# Altium integrated library Renesas Microcontroller H8S.IntLib: 670 symbols (part 8 of 70)
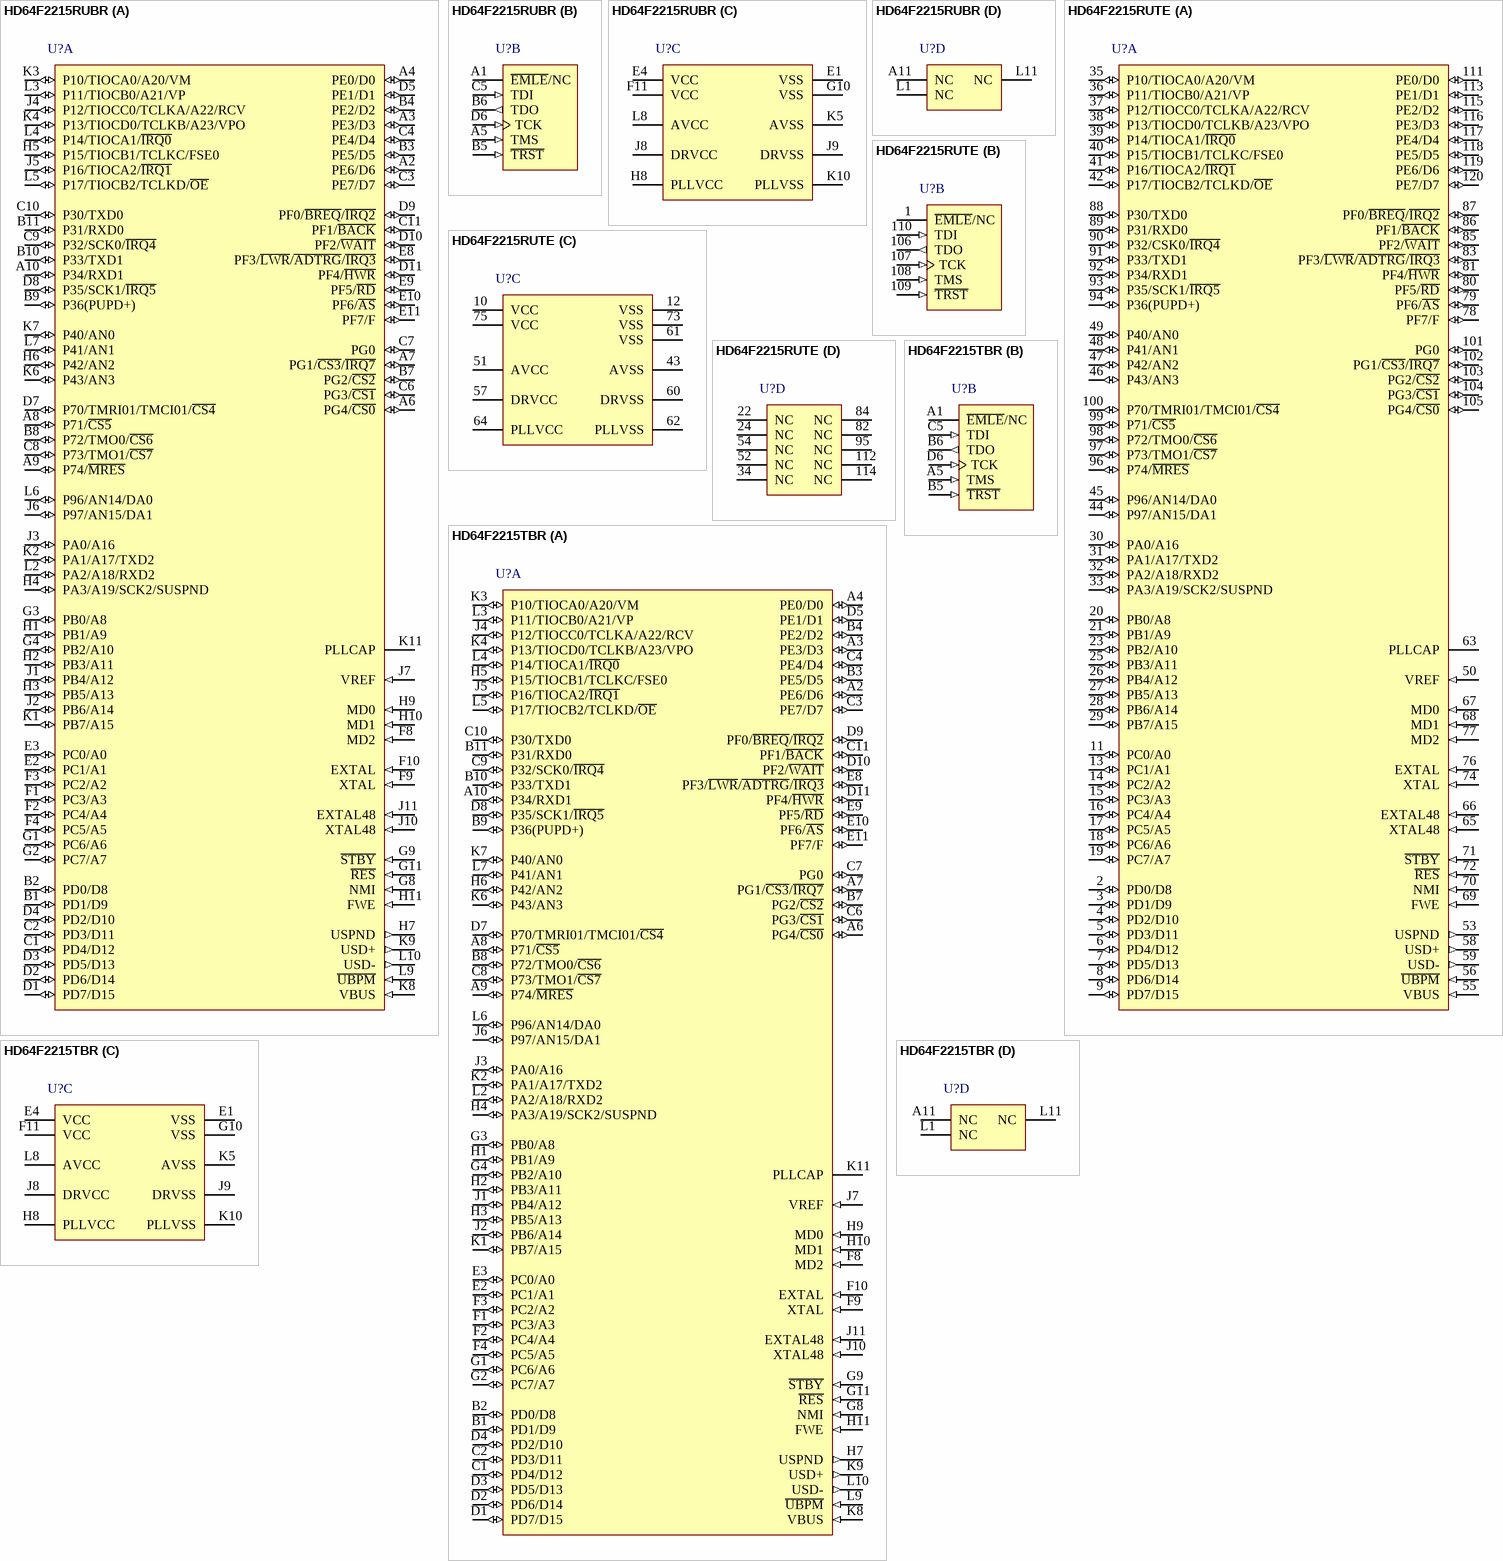
[diagram p348: symbols HD64F2215RUBR to HD64F2215TBR]

## HD64F2215TBR
designator U?
Flash memory H8S/2200 Series, 2215 Group MCU, 256K ROM, 20K RAM, BP-112 Pkg; Published: 28-Aug-2009; DatasheetVersion: Rev.8.00, Jan-2009; PackageVersion: Sep-2005; PackageReference: PLBG0112GA-A; Publisher: Altium Limited; PackageDescription: 112-Ball Plastic Low Profile Thin-Fine Pitch BGA, 10 x 10 mm Body, 0.8 mm Pitch; Code_JEITA: P-LFBGA112-10x10-0.80; ComponentLink1Description: Manufacturer Link; ComponentLink1URL: http://sg.renesas.com/fmwk.jsp?cnt=h8s_family_landing.jsp&fp=/products/mpumcu/h8s_family/; ComponentLink2Description: Datasheet; ComponentLink2URL: http://documentation.renesas.com/eng/products/mpumcu/rej09b0140_2215hm.pdf; ComponentLink3Description: Packaging Specification; ComponentLink3URL: http://sg.renesas.com/media/products/common_info/package/pdf/ic/code/plbg0112ga_a.pdf
footprint PLBG0112GA-A (BGA, 112-Leads, Body 10x10mm, Pitch 0.8mm)
part A pins: A2 PE6/D6 (io), A3 PE3/D3 (io), A4 PE0/D0 (io), A6 PG4/~{CS0} (io), A7 PG1/~{CS3}/~{IRQ7} (io), A8 P71/~{CS5} (io), A9 P74/~{MRES} (io), A10 P34/RXD1 (io), B1 PD1/D9 (io), B2 PD0/D8 (io), B3 PE5/D5 (io), B4 PE2/D2 (io), B7 PG2/~{CS2} (io), B8 P72/TMO0/~{CS6} (io), B9 P36(PUPD+) (io), B10 P33/TXD1 (io), B11 P31/RXD0 (io), C1 PD4/D12 (io), C2 PD3/D11 (io), C3 PE7/D7 (io), C4 PE4/D4 (io), C6 PG3/~{CS1} (io), C7 PG0 (io), C8 P73/TMO1/~{CS7} (io), C9 P32/SCK0/~{IRQ4} (io), C10 P30/TXD0 (io), C11 PF1/~{BACK} (io), D1 PD7/D15 (io), D2 PD6/D14 (io), D3 PD5/D13 (io), D4 PD2/D10 (io), D5 PE1/D1 (io), D7 P70/TMRI01/TMCI01/~{CS4} (io), D8 P35/SCK1/~{IRQ5} (io), D9 PF0/~{BREQ}/~{IRQ2} (io), D10 PF2/~{WAIT} (io), D11 PF4/~{HWR} (io), E2 PC1/A1 (io), E3 PC0/A0 (io), E8 PF3/~{LWR}/~{ADTRG}/~{IRQ3} (io), E9 PF5/~{RD} (io), E10 PF6/~{AS} (io), E11 PF7/F (io), F1 PC3/A3 (io), F2 PC4/A4 (io), F3 PC2/A2 (io), F4 PC5/A5 (io), F8 MD2 (in), F9 XTAL (in), F10 EXTAL (in), G1 PC6/A6 (io), G2 PC7/A7 (io), G3 PB0/A8 (io), G4 PB2/A10 (io), G8 NMI (in), G9 ~{STBY} (in), G11 ~{RES} (in), H1 PB1/A9 (io), H2 PB3/A11 (io), H3 PB5/A13 (io), H4 PA3/A19/SCK2/SUSPND (io), H5 P15/TIOCB1/TCLKC/FSE0 (io), H6 P42/AN2 (io), H7 USPND (out), H9 MD0 (in), H10 MD1 (in), H11 FWE (in), J1 PB4/A12 (io), J2 PB6/A14 (io), J3 PA0/A16 (io), J4 P12/TIOCC0/TCLKA/A22/RCV (io), J5 P16/TIOCA2/~{IRQ1} (io), J6 P97/AN15/DA1 (io), J7 VREF (in), J10 XTAL48 (in), J11 EXTAL48 (in), K1 PB7/A15 (io), K2 PA1/A17/TXD2 (io), K3 P10/TIOCA0/A20/VM (io), K4 P13/TIOCD0/TCLKB/A23/VPO (io), K6 P43/AN3 (io), K7 P40/AN0 (io), K8 VBUS (in), K9 USD+ (out), K11 PLLCAP, L2 PA2/A18/RXD2 (io), L3 P11/TIOCB0/A21/VP (io), L4 P14/TIOCA1/~{IRQ0} (io), L5 P17/TIOCB2/TCLKD/~{OE} (io), L6 P96/AN14/DA0 (io), L7 P41/AN1 (io), L9 ~{UBPM} (in), L10 USD- (out)
part B pins: A1 ~{EMLE}/NC, A5 TMS (in), B5 ~{TRST} (in), B6 TDO (out), C5 TDI (in), D6 TCK (in)
part C pins: E1 VSS (power), E4 VCC (power), F11 VCC (power), G10 VSS (power), H8 PLLVCC (power), J8 DRVCC (power), J9 DRVSS (power), K5 AVSS (power), K10 PLLVSS (power), L8 AVCC (power)
part D pins: A11 NC, L1 NC, L11 NC

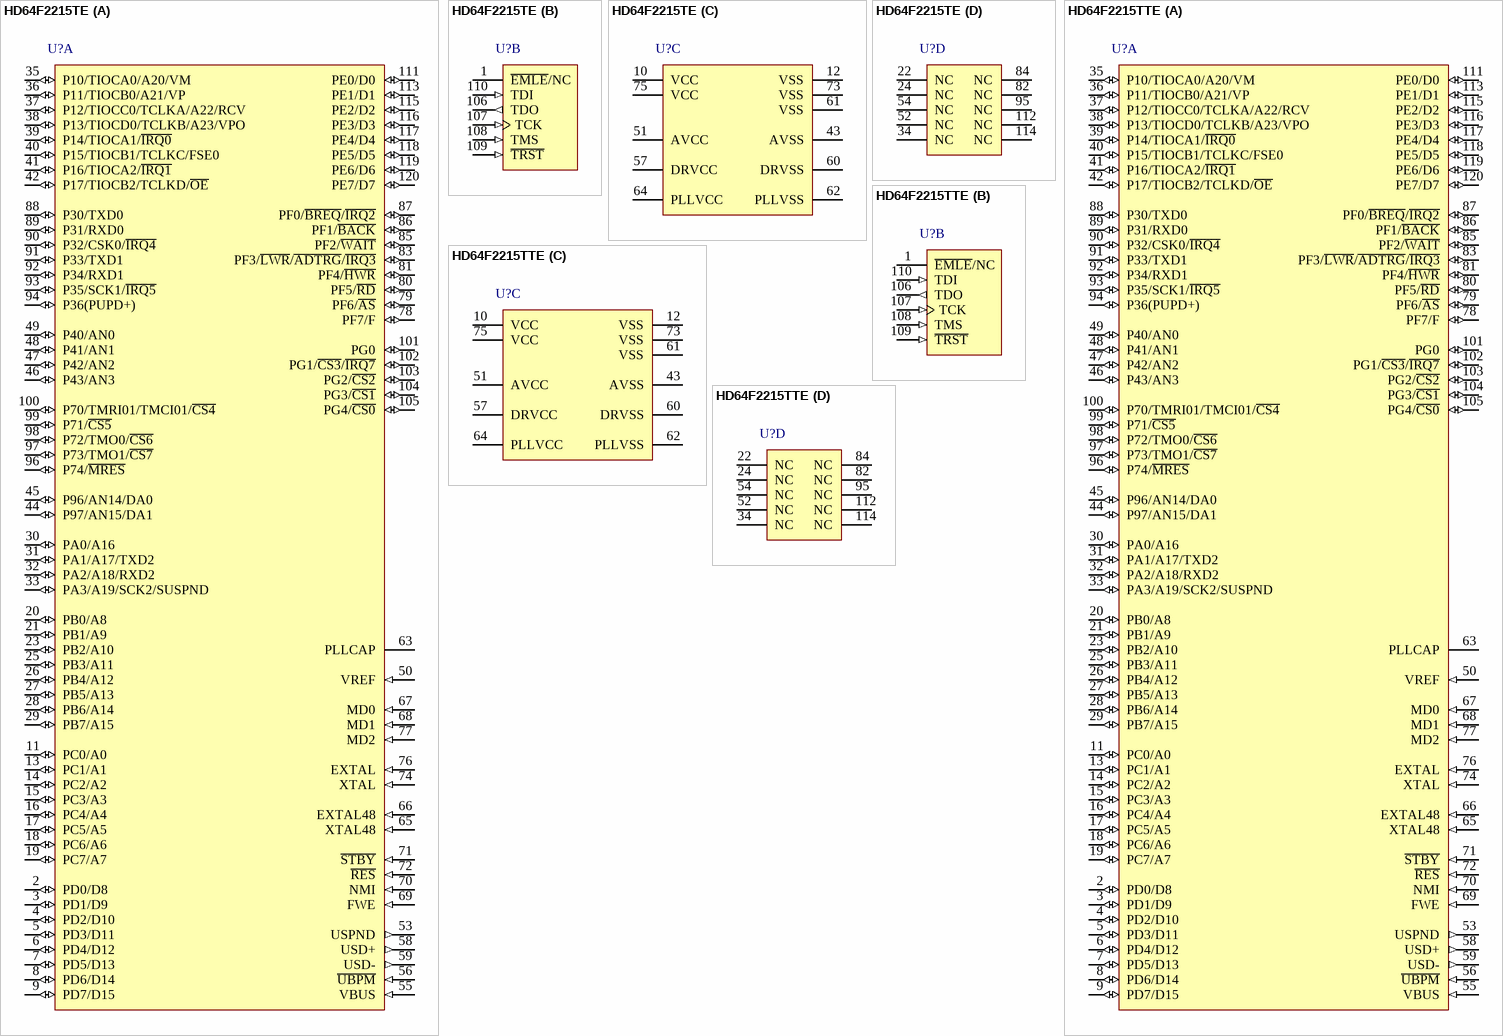
[diagram p28: symbols HD64F2215TE to HD64F2215TTE]

## HD64F2215TE
designator U?
Flash memory H8S/2200 Series, 2215 Group MCU, 256K ROM, 16K RAM, TFP-120 Pkg; Published: 28-Aug-2009; DatasheetVersion: Rev.8.00, Jan-2009; PackageVersion: Sep-2005; PackageReference: PTQP0120LA-A; Publisher: Altium Limited; PackageDescription: 120-Pin Plastic Thin QFP, 14 x 14 x 1.0 mm Body, 0.4 mm Pitch; Code_JEITA: P-TQFP120-14x14-0.40; ComponentLink1Description: Manufacturer Link; ComponentLink1URL: http://sg.renesas.com/fmwk.jsp?cnt=h8s_family_landing.jsp&fp=/products/mpumcu/h8s_family/; ComponentLink2Description: Datasheet; ComponentLink2URL: http://documentation.renesas.com/eng/products/mpumcu/rej09b0140_2215hm.pdf; ComponentLink3Description: Packaging Specification; ComponentLink3URL: http://sg.renesas.com/media/products/common_info/package/pdf/ic/code/ptqp0120la_a.pdf
footprint PTQP0120LA-A_N (Thin QFP, 120-Leads, Body 14x14mm, Pitch 0.4mm, IPC Medium Density)
footprint PTQP0120LA-A_L (Thin QFP, 120-Leads, Body 14x14mm, Pitch 0.4mm, IPC High Density)
footprint PTQP0120LA-A_M (Thin QFP, 120-Leads, Body 14x14mm, Pitch 0.4mm, IPC Low Density)
part A pins: 2 PD0/D8 (io), 3 PD1/D9 (io), 4 PD2/D10 (io), 5 PD3/D11 (io), 6 PD4/D12 (io), 7 PD5/D13 (io), 8 PD6/D14 (io), 9 PD7/D15 (io), 11 PC0/A0 (io), 13 PC1/A1 (io), 14 PC2/A2 (io), 15 PC3/A3 (io), 16 PC4/A4 (io), 17 PC5/A5 (io), 18 PC6/A6 (io), 19 PC7/A7 (io), 20 PB0/A8 (io), 21 PB1/A9 (io), 23 PB2/A10 (io), 25 PB3/A11 (io), 26 PB4/A12 (io), 27 PB5/A13 (io), 28 PB6/A14 (io), 29 PB7/A15 (io), 30 PA0/A16 (io), 31 PA1/A17/TXD2 (io), 32 PA2/A18/RXD2 (io), 33 PA3/A19/SCK2/SUSPND (io), 35 P10/TIOCA0/A20/VM (io), 36 P11/TIOCB0/A21/VP (io), 37 P12/TIOCC0/TCLKA/A22/RCV (io), 38 P13/TIOCD0/TCLKB/A23/VPO (io), 39 P14/TIOCA1/~{IRQ0} (io), 40 P15/TIOCB1/TCLKC/FSE0 (io), 41 P16/TIOCA2/~{IRQ1} (io), 42 P17/TIOCB2/TCLKD/~{OE} (io), 44 P97/AN15/DA1 (io), 45 P96/AN14/DA0 (io), 46 P43/AN3 (io), 47 P42/AN2 (io), 48 P41/AN1 (io), 49 P40/AN0 (io), 50 VREF (in), 53 USPND (out), 55 VBUS (in), 56 ~{UBPM} (in), 58 USD+ (out), 59 USD- (out), 63 PLLCAP, 65 XTAL48 (in), 66 EXTAL48 (in), 67 MD0 (in), 68 MD1 (in), 69 FWE (in), 70 NMI (in), 71 ~{STBY} (in), 72 ~{RES} (in), 74 XTAL (in), 76 EXTAL (in), 77 MD2 (in), 78 PF7/F (io), 79 PF6/~{AS} (io), 80 PF5/~{RD} (io), 81 PF4/~{HWR} (io), 83 PF3/~{LWR}/~{ADTRG}/~{IRQ3} (io), 85 PF2/~{WAIT} (io), 86 PF1/~{BACK} (io), 87 PF0/~{BREQ}/~{IRQ2} (io), 88 P30/TXD0 (io), 89 P31/RXD0 (io), 90 P32/CSK0/~{IRQ4} (io), 91 P33/TXD1 (io), 92 P34/RXD1 (io), 93 P35/SCK1/~{IRQ5} (io), 94 P36(PUPD+) (io), 96 P74/~{MRES} (io), 97 P73/TMO1/~{CS7} (io), 98 P72/TMO0/~{CS6} (io), 99 P71/~{CS5} (io), 100 P70/TMRI01/TMCI01/~{CS4} (io), 101 PG0 (io), 102 PG1/~{CS3}/~{IRQ7} (io), 103 PG2/~{CS2} (io), 104 PG3/~{CS1} (io), 105 PG4/~{CS0} (io), 111 PE0/D0 (io), 113 PE1/D1 (io), 115 PE2/D2 (io), 116 PE3/D3 (io), 117 PE4/D4 (io), 118 PE5/D5 (io), 119 PE6/D6 (io), 120 PE7/D7 (io)
part B pins: 1 ~{EMLE}/NC, 106 TDO (out), 107 TCK (in), 108 TMS (in), 109 ~{TRST} (in), 110 TDI (in)
part C pins: 10 VCC (power), 12 VSS (power), 43 AVSS (power), 51 AVCC (power), 57 DRVCC (power), 60 DRVSS (power), 61 VSS (power), 62 PLLVSS (power), 64 PLLVCC (power), 73 VSS (power), 75 VCC (power)
part D pins: 22 NC, 24 NC, 34 NC, 52 NC, 54 NC, 82 NC, 84 NC, 95 NC, 112 NC, 114 NC

## HD64F2215TTE
designator U?
Flash memory H8S/2200 Series, 2215 Group MCU, 256K ROM, 20K RAM, TFP-120 Pkg; Published: 28-Aug-2009; DatasheetVersion: Rev.8.00, Jan-2009; PackageVersion: Sep-2005; PackageReference: PTQP0120LA-A; Publisher: Altium Limited; PackageDescription: 120-Pin Plastic Thin QFP, 14 x 14 x 1.0 mm Body, 0.4 mm Pitch; Code_JEITA: P-TQFP120-14x14-0.40; ComponentLink1Description: Manufacturer Link; ComponentLink1URL: http://sg.renesas.com/fmwk.jsp?cnt=h8s_family_landing.jsp&fp=/products/mpumcu/h8s_family/; ComponentLink2Description: Datasheet; ComponentLink2URL: http://documentation.renesas.com/eng/products/mpumcu/rej09b0140_2215hm.pdf; ComponentLink3Description: Packaging Specification; ComponentLink3URL: http://sg.renesas.com/media/products/common_info/package/pdf/ic/code/ptqp0120la_a.pdf
footprint PTQP0120LA-A_N (Thin QFP, 120-Leads, Body 14x14mm, Pitch 0.4mm, IPC Medium Density)
footprint PTQP0120LA-A_L (Thin QFP, 120-Leads, Body 14x14mm, Pitch 0.4mm, IPC High Density)
footprint PTQP0120LA-A_M (Thin QFP, 120-Leads, Body 14x14mm, Pitch 0.4mm, IPC Low Density)
part A pins: 2 PD0/D8 (io), 3 PD1/D9 (io), 4 PD2/D10 (io), 5 PD3/D11 (io), 6 PD4/D12 (io), 7 PD5/D13 (io), 8 PD6/D14 (io), 9 PD7/D15 (io), 11 PC0/A0 (io), 13 PC1/A1 (io), 14 PC2/A2 (io), 15 PC3/A3 (io), 16 PC4/A4 (io), 17 PC5/A5 (io), 18 PC6/A6 (io), 19 PC7/A7 (io), 20 PB0/A8 (io), 21 PB1/A9 (io), 23 PB2/A10 (io), 25 PB3/A11 (io), 26 PB4/A12 (io), 27 PB5/A13 (io), 28 PB6/A14 (io), 29 PB7/A15 (io), 30 PA0/A16 (io), 31 PA1/A17/TXD2 (io), 32 PA2/A18/RXD2 (io), 33 PA3/A19/SCK2/SUSPND (io), 35 P10/TIOCA0/A20/VM (io), 36 P11/TIOCB0/A21/VP (io), 37 P12/TIOCC0/TCLKA/A22/RCV (io), 38 P13/TIOCD0/TCLKB/A23/VPO (io), 39 P14/TIOCA1/~{IRQ0} (io), 40 P15/TIOCB1/TCLKC/FSE0 (io), 41 P16/TIOCA2/~{IRQ1} (io), 42 P17/TIOCB2/TCLKD/~{OE} (io), 44 P97/AN15/DA1 (io), 45 P96/AN14/DA0 (io), 46 P43/AN3 (io), 47 P42/AN2 (io), 48 P41/AN1 (io), 49 P40/AN0 (io), 50 VREF (in), 53 USPND (out), 55 VBUS (in), 56 ~{UBPM} (in), 58 USD+ (out), 59 USD- (out), 63 PLLCAP, 65 XTAL48 (in), 66 EXTAL48 (in), 67 MD0 (in), 68 MD1 (in), 69 FWE (in), 70 NMI (in), 71 ~{STBY} (in), 72 ~{RES} (in), 74 XTAL (in), 76 EXTAL (in), 77 MD2 (in), 78 PF7/F (io), 79 PF6/~{AS} (io), 80 PF5/~{RD} (io), 81 PF4/~{HWR} (io), 83 PF3/~{LWR}/~{ADTRG}/~{IRQ3} (io), 85 PF2/~{WAIT} (io), 86 PF1/~{BACK} (io), 87 PF0/~{BREQ}/~{IRQ2} (io), 88 P30/TXD0 (io), 89 P31/RXD0 (io), 90 P32/CSK0/~{IRQ4} (io), 91 P33/TXD1 (io), 92 P34/RXD1 (io), 93 P35/SCK1/~{IRQ5} (io), 94 P36(PUPD+) (io), 96 P74/~{MRES} (io), 97 P73/TMO1/~{CS7} (io), 98 P72/TMO0/~{CS6} (io), 99 P71/~{CS5} (io), 100 P70/TMRI01/TMCI01/~{CS4} (io), 101 PG0 (io), 102 PG1/~{CS3}/~{IRQ7} (io), 103 PG2/~{CS2} (io), 104 PG3/~{CS1} (io), 105 PG4/~{CS0} (io), 111 PE0/D0 (io), 113 PE1/D1 (io), 115 PE2/D2 (io), 116 PE3/D3 (io), 117 PE4/D4 (io), 118 PE5/D5 (io), 119 PE6/D6 (io), 120 PE7/D7 (io)
part B pins: 1 ~{EMLE}/NC, 106 TDO (out), 107 TCK (in), 108 TMS (in), 109 ~{TRST} (in), 110 TDI (in)
part C pins: 10 VCC (power), 12 VSS (power), 43 AVSS (power), 51 AVCC (power), 57 DRVCC (power), 60 DRVSS (power), 61 VSS (power), 62 PLLVSS (power), 64 PLLVCC (power), 73 VSS (power), 75 VCC (power)
part D pins: 22 NC, 24 NC, 34 NC, 52 NC, 54 NC, 82 NC, 84 NC, 95 NC, 112 NC, 114 NC

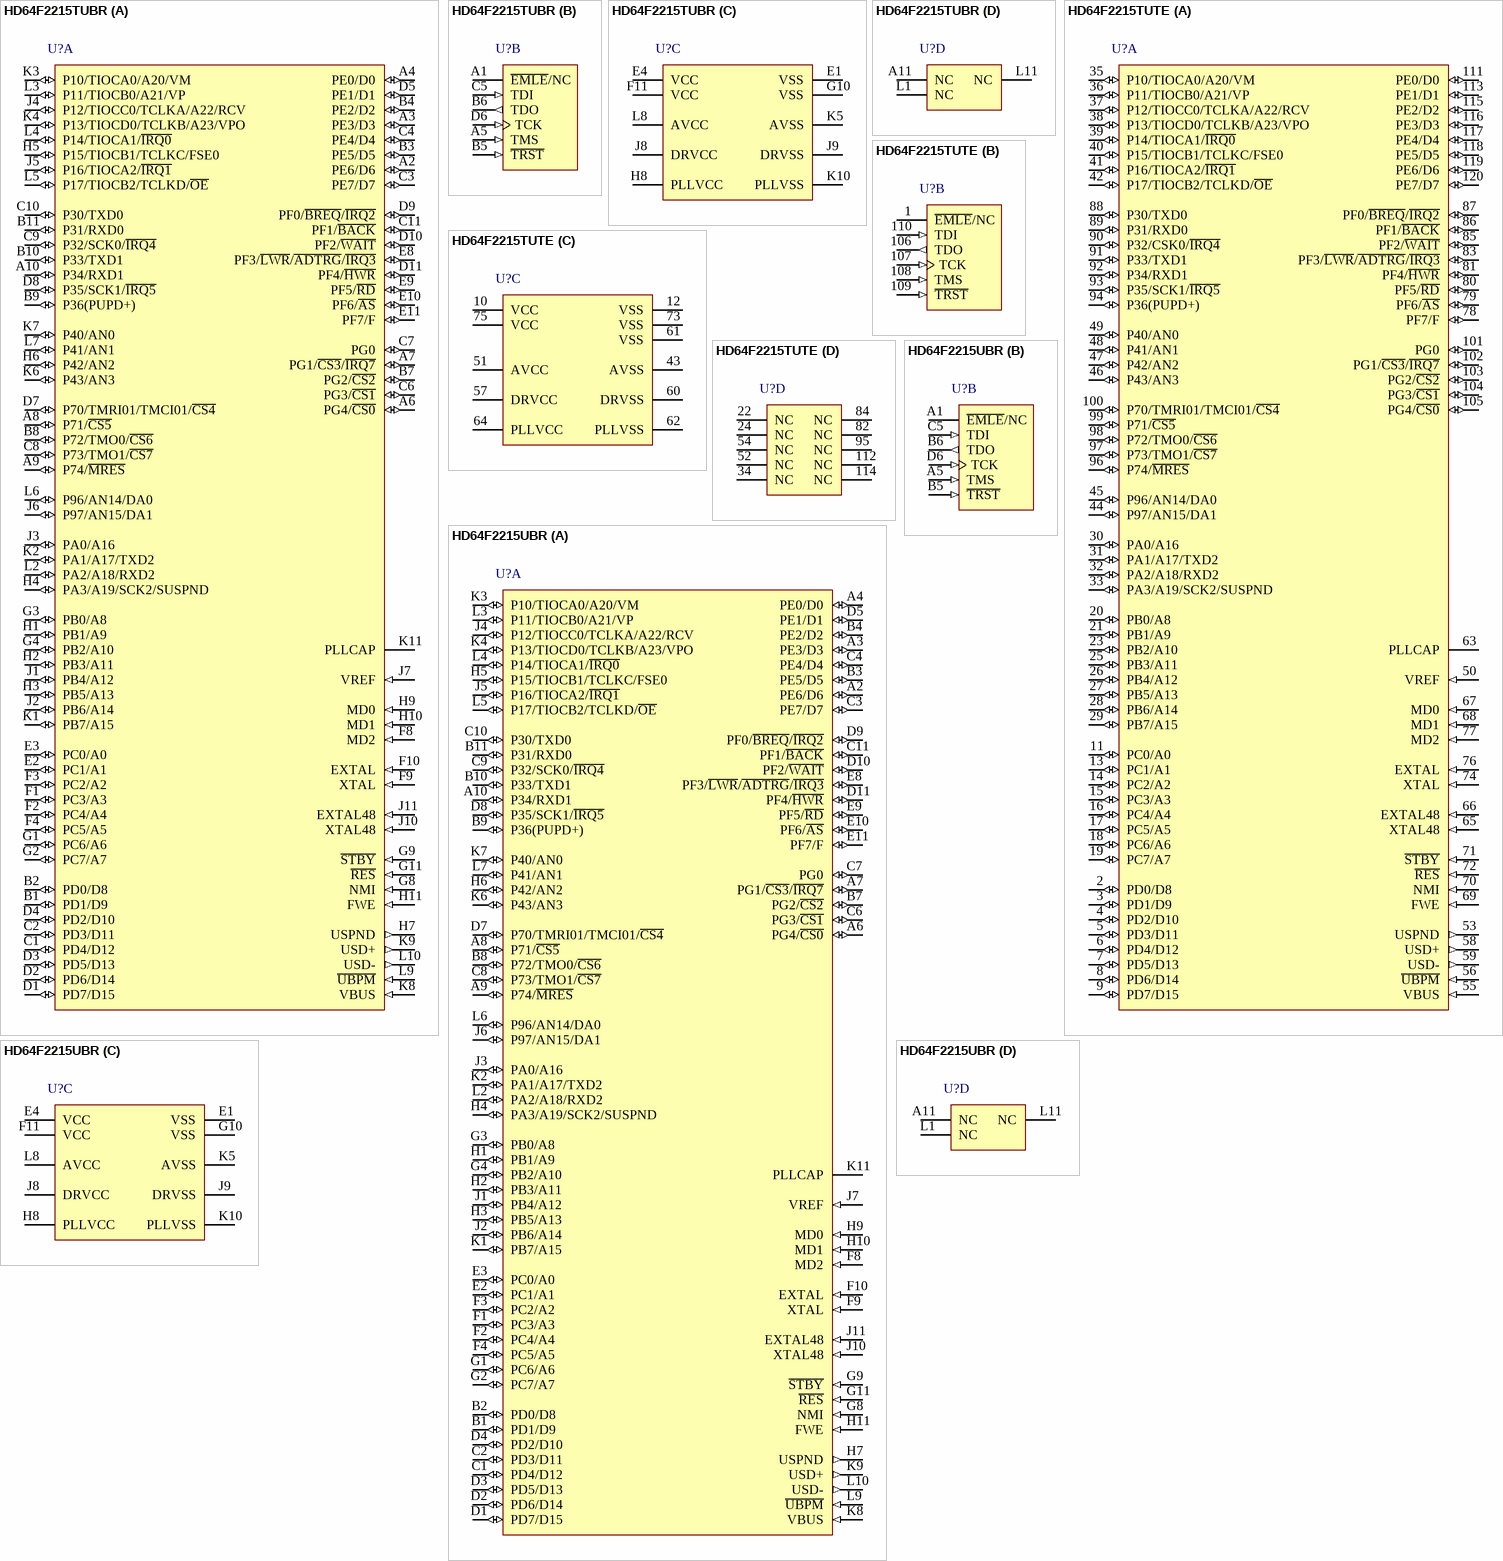
[diagram p29: symbols HD64F2215TUBR to HD64F2215UBR]

## HD64F2215TUBR
designator U?
Flash memory H8S/2200 Series, 2215 Group MCU, 256K ROM, 20K RAM, BP-112 Pkg; Published: 28-Aug-2009; DatasheetVersion: Rev.8.00, Jan-2009; PackageVersion: Sep-2005; PackageReference: PLBG0112GA-A; Publisher: Altium Limited; PackageDescription: 112-Ball Plastic Low Profile Thin-Fine Pitch BGA, 10 x 10 mm Body, 0.8 mm Pitch; Code_JEITA: P-LFBGA112-10x10-0.80; ComponentLink1Description: Manufacturer Link; ComponentLink1URL: http://sg.renesas.com/fmwk.jsp?cnt=h8s_family_landing.jsp&fp=/products/mpumcu/h8s_family/; ComponentLink2Description: Datasheet; ComponentLink2URL: http://documentation.renesas.com/eng/products/mpumcu/rej09b0140_2215hm.pdf; ComponentLink3Description: Packaging Specification; ComponentLink3URL: http://sg.renesas.com/media/products/common_info/package/pdf/ic/code/plbg0112ga_a.pdf
footprint PLBG0112GA-A (BGA, 112-Leads, Body 10x10mm, Pitch 0.8mm)
part A pins: A2 PE6/D6 (io), A3 PE3/D3 (io), A4 PE0/D0 (io), A6 PG4/~{CS0} (io), A7 PG1/~{CS3}/~{IRQ7} (io), A8 P71/~{CS5} (io), A9 P74/~{MRES} (io), A10 P34/RXD1 (io), B1 PD1/D9 (io), B2 PD0/D8 (io), B3 PE5/D5 (io), B4 PE2/D2 (io), B7 PG2/~{CS2} (io), B8 P72/TMO0/~{CS6} (io), B9 P36(PUPD+) (io), B10 P33/TXD1 (io), B11 P31/RXD0 (io), C1 PD4/D12 (io), C2 PD3/D11 (io), C3 PE7/D7 (io), C4 PE4/D4 (io), C6 PG3/~{CS1} (io), C7 PG0 (io), C8 P73/TMO1/~{CS7} (io), C9 P32/SCK0/~{IRQ4} (io), C10 P30/TXD0 (io), C11 PF1/~{BACK} (io), D1 PD7/D15 (io), D2 PD6/D14 (io), D3 PD5/D13 (io), D4 PD2/D10 (io), D5 PE1/D1 (io), D7 P70/TMRI01/TMCI01/~{CS4} (io), D8 P35/SCK1/~{IRQ5} (io), D9 PF0/~{BREQ}/~{IRQ2} (io), D10 PF2/~{WAIT} (io), D11 PF4/~{HWR} (io), E2 PC1/A1 (io), E3 PC0/A0 (io), E8 PF3/~{LWR}/~{ADTRG}/~{IRQ3} (io), E9 PF5/~{RD} (io), E10 PF6/~{AS} (io), E11 PF7/F (io), F1 PC3/A3 (io), F2 PC4/A4 (io), F3 PC2/A2 (io), F4 PC5/A5 (io), F8 MD2 (in), F9 XTAL (in), F10 EXTAL (in), G1 PC6/A6 (io), G2 PC7/A7 (io), G3 PB0/A8 (io), G4 PB2/A10 (io), G8 NMI (in), G9 ~{STBY} (in), G11 ~{RES} (in), H1 PB1/A9 (io), H2 PB3/A11 (io), H3 PB5/A13 (io), H4 PA3/A19/SCK2/SUSPND (io), H5 P15/TIOCB1/TCLKC/FSE0 (io), H6 P42/AN2 (io), H7 USPND (out), H9 MD0 (in), H10 MD1 (in), H11 FWE (in), J1 PB4/A12 (io), J2 PB6/A14 (io), J3 PA0/A16 (io), J4 P12/TIOCC0/TCLKA/A22/RCV (io), J5 P16/TIOCA2/~{IRQ1} (io), J6 P97/AN15/DA1 (io), J7 VREF (in), J10 XTAL48 (in), J11 EXTAL48 (in), K1 PB7/A15 (io), K2 PA1/A17/TXD2 (io), K3 P10/TIOCA0/A20/VM (io), K4 P13/TIOCD0/TCLKB/A23/VPO (io), K6 P43/AN3 (io), K7 P40/AN0 (io), K8 VBUS (in), K9 USD+ (out), K11 PLLCAP, L2 PA2/A18/RXD2 (io), L3 P11/TIOCB0/A21/VP (io), L4 P14/TIOCA1/~{IRQ0} (io), L5 P17/TIOCB2/TCLKD/~{OE} (io), L6 P96/AN14/DA0 (io), L7 P41/AN1 (io), L9 ~{UBPM} (in), L10 USD- (out)
part B pins: A1 ~{EMLE}/NC, A5 TMS (in), B5 ~{TRST} (in), B6 TDO (out), C5 TDI (in), D6 TCK (in)
part C pins: E1 VSS (power), E4 VCC (power), F11 VCC (power), G10 VSS (power), H8 PLLVCC (power), J8 DRVCC (power), J9 DRVSS (power), K5 AVSS (power), K10 PLLVSS (power), L8 AVCC (power)
part D pins: A11 NC, L1 NC, L11 NC

## HD64F2215TUTE
designator U?
Flash memory H8S/2200 Series, 2215 Group MCU, 256K ROM, 20K RAM, TFP-120 Pkg; Published: 28-Aug-2009; DatasheetVersion: Rev.8.00, Jan-2009; PackageVersion: Sep-2005; PackageReference: PTQP0120LA-A; Publisher: Altium Limited; PackageDescription: 120-Pin Plastic Thin QFP, 14 x 14 x 1.0 mm Body, 0.4 mm Pitch; Code_JEITA: P-TQFP120-14x14-0.40; ComponentLink1Description: Manufacturer Link; ComponentLink1URL: http://sg.renesas.com/fmwk.jsp?cnt=h8s_family_landing.jsp&fp=/products/mpumcu/h8s_family/; ComponentLink2Description: Datasheet; ComponentLink2URL: http://documentation.renesas.com/eng/products/mpumcu/rej09b0140_2215hm.pdf; ComponentLink3Description: Packaging Specification; ComponentLink3URL: http://sg.renesas.com/media/products/common_info/package/pdf/ic/code/ptqp0120la_a.pdf
footprint PTQP0120LA-A_N (Thin QFP, 120-Leads, Body 14x14mm, Pitch 0.4mm, IPC Medium Density)
footprint PTQP0120LA-A_L (Thin QFP, 120-Leads, Body 14x14mm, Pitch 0.4mm, IPC High Density)
footprint PTQP0120LA-A_M (Thin QFP, 120-Leads, Body 14x14mm, Pitch 0.4mm, IPC Low Density)
part A pins: 2 PD0/D8 (io), 3 PD1/D9 (io), 4 PD2/D10 (io), 5 PD3/D11 (io), 6 PD4/D12 (io), 7 PD5/D13 (io), 8 PD6/D14 (io), 9 PD7/D15 (io), 11 PC0/A0 (io), 13 PC1/A1 (io), 14 PC2/A2 (io), 15 PC3/A3 (io), 16 PC4/A4 (io), 17 PC5/A5 (io), 18 PC6/A6 (io), 19 PC7/A7 (io), 20 PB0/A8 (io), 21 PB1/A9 (io), 23 PB2/A10 (io), 25 PB3/A11 (io), 26 PB4/A12 (io), 27 PB5/A13 (io), 28 PB6/A14 (io), 29 PB7/A15 (io), 30 PA0/A16 (io), 31 PA1/A17/TXD2 (io), 32 PA2/A18/RXD2 (io), 33 PA3/A19/SCK2/SUSPND (io), 35 P10/TIOCA0/A20/VM (io), 36 P11/TIOCB0/A21/VP (io), 37 P12/TIOCC0/TCLKA/A22/RCV (io), 38 P13/TIOCD0/TCLKB/A23/VPO (io), 39 P14/TIOCA1/~{IRQ0} (io), 40 P15/TIOCB1/TCLKC/FSE0 (io), 41 P16/TIOCA2/~{IRQ1} (io), 42 P17/TIOCB2/TCLKD/~{OE} (io), 44 P97/AN15/DA1 (io), 45 P96/AN14/DA0 (io), 46 P43/AN3 (io), 47 P42/AN2 (io), 48 P41/AN1 (io), 49 P40/AN0 (io), 50 VREF (in), 53 USPND (out), 55 VBUS (in), 56 ~{UBPM} (in), 58 USD+ (out), 59 USD- (out), 63 PLLCAP, 65 XTAL48 (in), 66 EXTAL48 (in), 67 MD0 (in), 68 MD1 (in), 69 FWE (in), 70 NMI (in), 71 ~{STBY} (in), 72 ~{RES} (in), 74 XTAL (in), 76 EXTAL (in), 77 MD2 (in), 78 PF7/F (io), 79 PF6/~{AS} (io), 80 PF5/~{RD} (io), 81 PF4/~{HWR} (io), 83 PF3/~{LWR}/~{ADTRG}/~{IRQ3} (io), 85 PF2/~{WAIT} (io), 86 PF1/~{BACK} (io), 87 PF0/~{BREQ}/~{IRQ2} (io), 88 P30/TXD0 (io), 89 P31/RXD0 (io), 90 P32/CSK0/~{IRQ4} (io), 91 P33/TXD1 (io), 92 P34/RXD1 (io), 93 P35/SCK1/~{IRQ5} (io), 94 P36(PUPD+) (io), 96 P74/~{MRES} (io), 97 P73/TMO1/~{CS7} (io), 98 P72/TMO0/~{CS6} (io), 99 P71/~{CS5} (io), 100 P70/TMRI01/TMCI01/~{CS4} (io), 101 PG0 (io), 102 PG1/~{CS3}/~{IRQ7} (io), 103 PG2/~{CS2} (io), 104 PG3/~{CS1} (io), 105 PG4/~{CS0} (io), 111 PE0/D0 (io), 113 PE1/D1 (io), 115 PE2/D2 (io), 116 PE3/D3 (io), 117 PE4/D4 (io), 118 PE5/D5 (io), 119 PE6/D6 (io), 120 PE7/D7 (io)
part B pins: 1 ~{EMLE}/NC, 106 TDO (out), 107 TCK (in), 108 TMS (in), 109 ~{TRST} (in), 110 TDI (in)
part C pins: 10 VCC (power), 12 VSS (power), 43 AVSS (power), 51 AVCC (power), 57 DRVCC (power), 60 DRVSS (power), 61 VSS (power), 62 PLLVSS (power), 64 PLLVCC (power), 73 VSS (power), 75 VCC (power)
part D pins: 22 NC, 24 NC, 34 NC, 52 NC, 54 NC, 82 NC, 84 NC, 95 NC, 112 NC, 114 NC